# EAGLE library part 502584-0670 (library molex)
CONN RCPT VERT 6POS 1.50MM PCB tested: NO
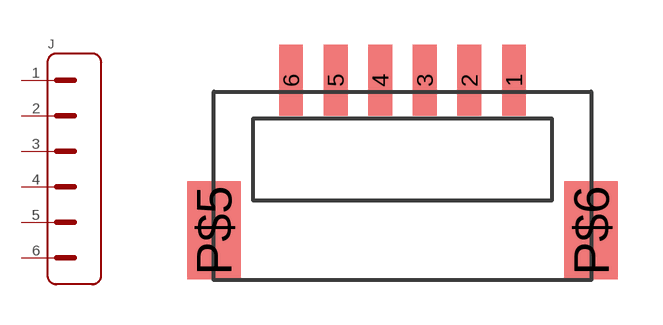
[diagram p6: symbol with the pads of 502584-0670; footprint 502584-0670]

Designator prefix J

## 502584-0670  [502584-0670]
1  1
2  2
3  3
4  4
5  5
6  6

## Footprint 502584-0670 (pad centres in mm)
smd 0.8 x 2.4: 1 3.75,5.05; 2 2.25,5.05; 3 0.75,5.05; 4 -0.75,5.05; 5 -2.25,5.05; 6 -3.75,5.05
smd 1.8 x 3.3: P$5 -6.35,0; P$6 6.35,0